# Altium schematic symbol library XPT2046.SchLib: 1 symbol
Pins are listed as number, name and electrical type; pins without a type are passive.

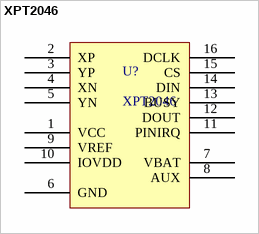
[diagram p0: symbol XPT2046]

## XPT2046
designator U?
footprint TSOP65P640X120-16N (TSOP, 16-Leads, Body 5.00x4.40mm, Pitch 0.65mm, IPC Medium Density)
pins: 1 VCC, 2 XP, 3 YP, 4 XN, 5 YN, 6 GND, 7 VBAT, 8 AUX, 9 VREF, 10 IOVDD, 11 PINIRQ, 12 DOUT, 13 BUSY, 14 DIN, 15 CS, 16 DCLK